# EAGLE library part ESP32-C6-WROOM-1-N8 (library DeskAssistant v19 v1 v6)
Check availability <https://pricing.snapeda.com/parts/ESP32-C6-WROOM-1-N8/Espressif%20Systems/view-part?ref=eda>
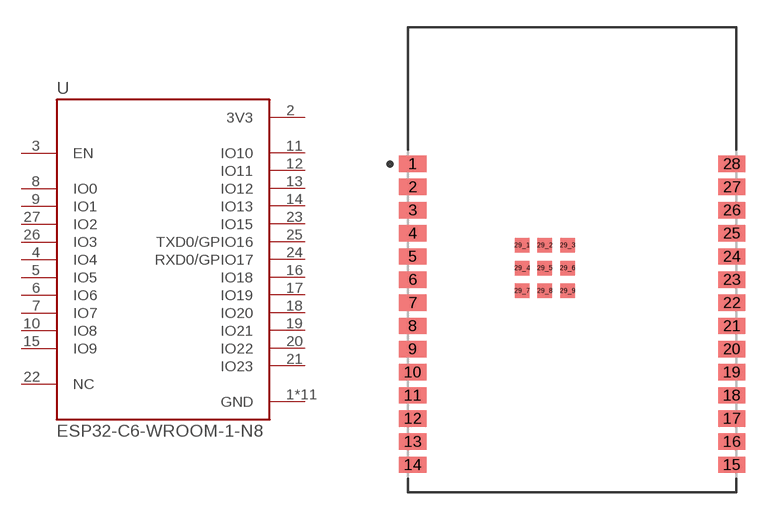
[diagram p6: symbol with the pads of XCVR_ESP32-C6-WROOM-1-N8; footprint XCVR_ESP32-C6-WROOM-1-N8]

Designator prefix U

## ESP32-C6-WROOM-1-N8 (AVAILABILITY: In Stock; CHECK_PRICES: https://www.snapeda.com/parts/ESP32-C6-WROOM-1-N8/Espressif+Systems/view-part/?ref=eda; DESCRIPTION: Multiprotocol Modules ESP32-C6 module, Wi-Fi 6 in 2.4 GHz band, Bluetooth 5, Zigbee 3.0 and Thread. ESP34-WROOM Compatible - ENGINEERING SAMPLE; MF: Espressif Systems; MP: ESP32-C6-WROOM-1-N8; PACKAGE: None; PRICE: None; SNAPEDA_LINK: https://www.snapeda.com/parts/ESP32-C6-WROOM-1-N8/Espressif+Systems/view-part/?ref=snap)  [XCVR_ESP32-C6-WROOM-1-N8]
1  GND  pwr
2  3V3  pwr
3  EN  in
4  IO4
5  IO5
6  IO6
7  IO7
8  IO0
9  IO1
10  IO8
11  IO10
12  IO11
13  IO12
14  IO13
15  IO9
16  IO18
17  IO19
18  IO20
19  IO21
20  IO22
21  IO23
22  NC  nc
23  IO15
24  RXD0/GPIO17
25  TXD0/GPIO16
26  IO3
27  IO2
28  GND  pwr
29_1  GND  pwr
29_2  GND  pwr
29_3  GND  pwr
29_4  GND  pwr
29_5  GND  pwr
29_6  GND  pwr
29_7  GND  pwr
29_8  GND  pwr
29_9  GND  pwr

## Footprint XCVR_ESP32-C6-WROOM-1-N8 (pad centres in mm)
smd 1.5 x 0.9: 1 -8.75,5.26; 2 -8.75,3.99; 3 -8.75,2.72; 4 -8.75,1.45; 5 -8.75,0.18; 6 -8.75,-1.09; 7 -8.75,-2.36; 8 -8.75,-3.63; 9 -8.75,-4.9; 10 -8.75,-6.17; 11 -8.75,-7.44; 12 -8.75,-8.71; 13 -8.75,-9.98; 14 -8.75,-11.25; 15 8.75,-11.25; 16 8.75,-9.98; 17 8.75,-8.71; 18 8.75,-7.44; 19 8.75,-6.17; 20 8.75,-4.9; 21 8.75,-3.63; 22 8.75,-2.36; 23 8.75,-1.09; 24 8.75,0.18; 25 8.75,1.45; 26 8.75,2.72; 27 8.75,3.99; 28 8.75,5.26
smd 0.8 x 0.8: 29_1 -2.755,0.79; 29_2 -1.505,0.79; 29_3 -0.255,0.79; 29_4 -2.755,-0.46; 29_5 -1.505,-0.46; 29_6 -0.255,-0.46; 29_7 -2.755,-1.71; 29_8 -1.505,-1.71; 29_9 -0.255,-1.71